# EAGLE library part MSP430FR5969IRGZR (library MSP430FR5969IRGZR)
MSP430FR5969 16 MHz Ultra-Low-Power Microcontroller featuring 64 KB FRAM, 2 KB SRAM, 40 IO Source: Datasheet <http://www.ti.com/lit/gpn/msp430fr5969>
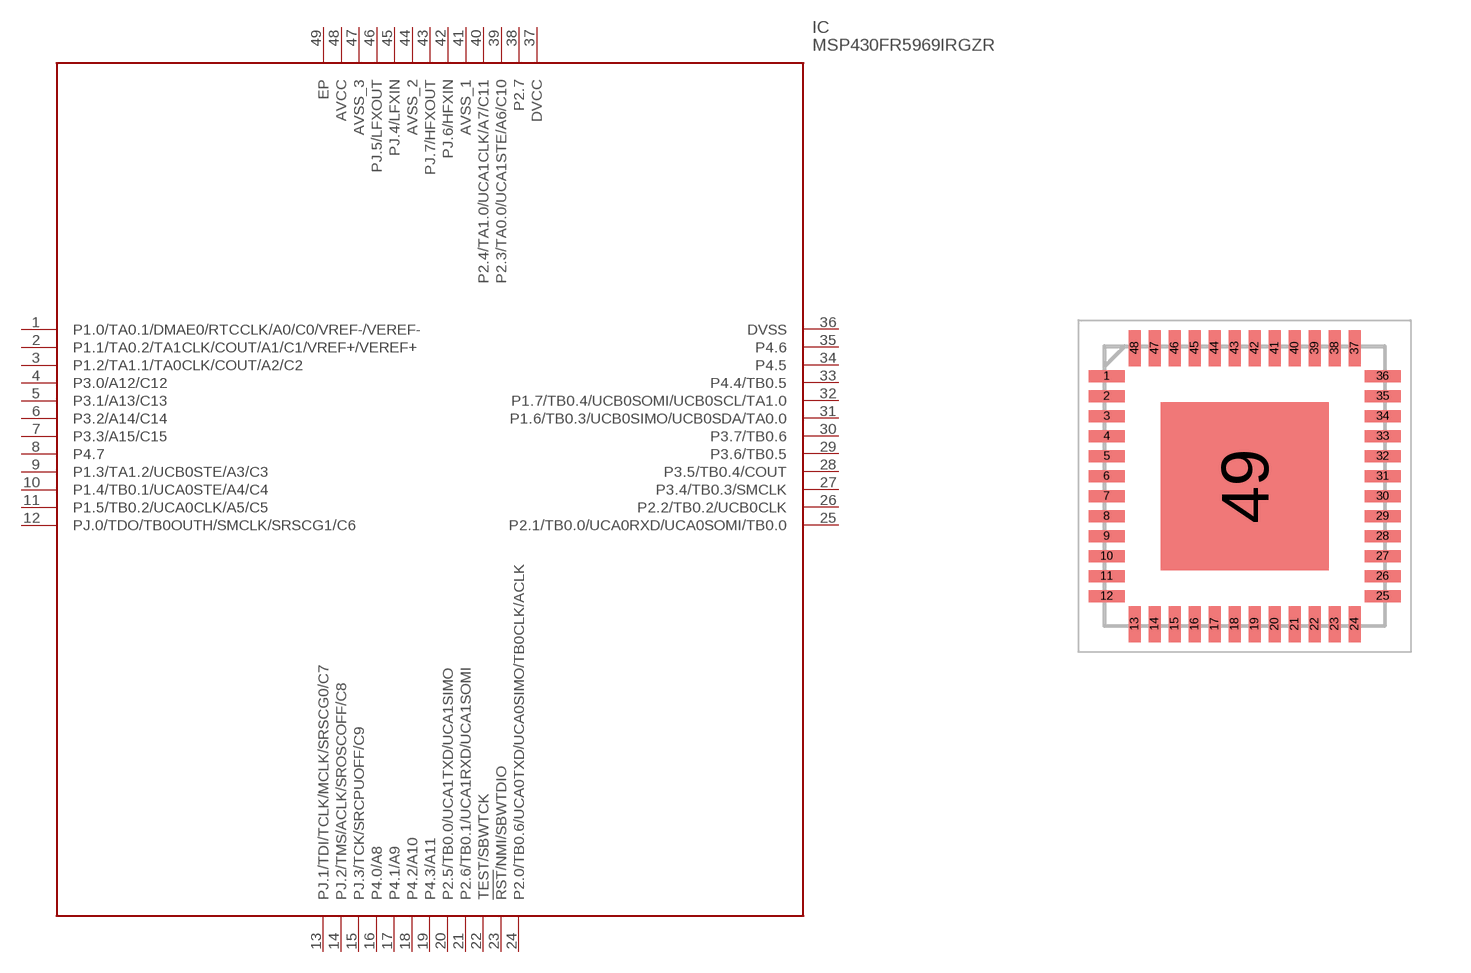
[diagram p0: symbol with the pads of QFN50P700X700X100-49N; footprint QFN50P700X700X100-49N]

Designator prefix IC

## MSP430FR5969IRGZR (Arrow_Part_Number: MSP430FR5969IRGZR; Arrow_Price-Stock: https://www.arrow.com/en/products/msp430fr5969irgzr/texas-instruments; Description: MSP430FR5969 16 MHz Ultra-Low-Power Microcontroller featuring 64 KB FRAM, 2 KB SRAM, 40 IO; Height: 1mm; Manufacturer_Name: Texas Instruments; Manufacturer_Part_Number: MSP430FR5969IRGZR; Mouser_Part_Number: 595-SP430FR5969IRGZR; Mouser_Price-Stock: https://www.mouser.co.uk/ProductDetail/Texas-Instruments/MSP430FR5969IRGZR?qs=7z%252BmIopC6%2FJ%2FZ11pkpOmXA%3D%3D)  [QFN50P700X700X100-49N]
1  P1.0/TA0.1/DMAE0/RTCCLK/A0/C0/VREF-/VEREF-
2  P1.1/TA0.2/TA1CLK/COUT/A1/C1/VREF+/VEREF+
3  P1.2/TA1.1/TA0CLK/COUT/A2/C2
4  P3.0/A12/C12
5  P3.1/A13/C13
6  P3.2/A14/C14
7  P3.3/A15/C15
8  P4.7
9  P1.3/TA1.2/UCB0STE/A3/C3
10  P1.4/TB0.1/UCA0STE/A4/C4
11  P1.5/TB0.2/UCA0CLK/A5/C5
12  PJ.0/TDO/TB0OUTH/SMCLK/SRSCG1/C6
13  PJ.1/TDI/TCLK/MCLK/SRSCG0/C7
14  PJ.2/TMS/ACLK/SROSCOFF/C8
15  PJ.3/TCK/SRCPUOFF/C9
16  P4.0/A8
17  P4.1/A9
18  P4.2/A10
19  P4.3/A11
20  P2.5/TB0.0/UCA1TXD/UCA1SIMO
21  P2.6/TB0.1/UCA1RXD/UCA1SOMI
22  TEST/SBWTCK
23  !RST!/NMI/SBWTDIO
24  P2.0/TB0.6/UCA0TXD/UCA0SIMO/TB0CLK/ACLK
25  P2.1/TB0.0/UCA0RXD/UCA0SOMI/TB0.0
26  P2.2/TB0.2/UCB0CLK
27  P3.4/TB0.3/SMCLK
28  P3.5/TB0.4/COUT
29  P3.6/TB0.5
30  P3.7/TB0.6
31  P1.6/TB0.3/UCB0SIMO/UCB0SDA/TA0.0
32  P1.7/TB0.4/UCB0SOMI/UCB0SCL/TA1.0
33  P4.4/TB0.5
34  P4.5
35  P4.6
36  DVSS
37  DVCC
38  P2.7
39  P2.3/TA0.0/UCA1STE/A6/C10
40  P2.4/TA1.0/UCA1CLK/A7/C11
41  AVSS_1
42  PJ.6/HFXIN
43  PJ.7/HFXOUT
44  AVSS_2
45  PJ.4/LFXIN
46  PJ.5/LFXOUT
47  AVSS_3
48  AVCC
49  EP

## Footprint QFN50P700X700X100-49N (pad centres in mm)
VQFN RGZ--
smd 0.9 x 0.3: 1 -3.45,2.75; 2 -3.45,2.25; 3 -3.45,1.75; 4 -3.45,1.25; 5 -3.45,0.75; 6 -3.45,0.25; 7 -3.45,-0.25; 8 -3.45,-0.75; 9 -3.45,-1.25; 10 -3.45,-1.75; 11 -3.45,-2.25; 12 -3.45,-2.75; 25 3.45,-2.75; 26 3.45,-2.25; 27 3.45,-1.75; 28 3.45,-1.25; 29 3.45,-0.75; 30 3.45,-0.25; 31 3.45,0.25; 32 3.45,0.75; 33 3.45,1.25; 34 3.45,1.75; 35 3.45,2.25; 36 3.45,2.75
smd 0.3 x 0.9: 13 -2.75,-3.45; 14 -2.25,-3.45; 15 -1.75,-3.45; 16 -1.25,-3.45; 17 -0.75,-3.45; 18 -0.25,-3.45; 19 0.25,-3.45; 20 0.75,-3.45; 21 1.25,-3.45; 22 1.75,-3.45; 23 2.25,-3.45; 24 2.75,-3.45; 37 2.75,3.45; 38 2.25,3.45; 39 1.75,3.45; 40 1.25,3.45; 41 0.75,3.45; 42 0.25,3.45; 43 -0.25,3.45; 44 -0.75,3.45; 45 -1.25,3.45; 46 -1.75,3.45; 47 -2.25,3.45; 48 -2.75,3.45
smd 4.2 x 4.2: 49 0,0